# EAGLE library part ATTINY*7-? (library volks73-Atmel)
AVR® ATtiny8/167 Microcontroller 8-bit Atmel Microcontroller with 8K/16K Bytes In-System Programmable Flash and LIN Controller Documentation Datasheet <http://www.atmel.com/Images/Atmel-8265-8-bit-AVR-Microcontroller-tinyAVR-ATtiny87-ATtiny167_datasheet.pdf> PCB Footprint <http://www.atmel.com/images/atmel-8826-seeprom-pcb-mounting-guidelines-surface-mount-packages-applicationnote.pdf> Features High Performance, Low Power AVR® 8-bit Microcontroller Advanced RISC Architecture 123 Powerful Instructions – Most Single Clock Cycle Execution 32 x 8 General Purpose Working Registers Fully Static Operation Non-volatile Program and Data Memories 8K/16K Bytes of In-System Programmable Flash Program Memory Endurance: 10,000 Write/Erase Cycles 512 Bytes of In-System Programmable EEPROM Endurance: 100,000 Write/Erase Cycles 512 Bytes of Internal SRAM Data retention: 20 Years at 85°C / 100 Years at 25°C In-System Programmable via SPI Port Low size LIN/UART Software In-System Programmable Programming Lock for Software Security Peripheral Features LIN 2.1 and 1.3 Controller or 8-bit UART One 8-bit Asynchronous Timer/Counter with Prescaler Output Compare or 8-bit PWM Channel One 16-bit Synchronous Timer/Counter with Prescaler External Event Counter 2 Output Compare Units or PWM Channels each Driving up to 4 Output Pins Master/Slave SPI Serial Interface Universal Serial Interface with Start Condition Detector 10-bit ADC 11 Single Ended Channels 8 Differential ADC Channel Pairs with Programmable Gain (8x or 20x) On-chip Analog Comparator with Selectable Voltage Reference 100 µA ±10% Current Source for LIN Node Identification On-chip Temperature Sensor Programmable Watchdog Timer with Separate On-chip Oscillator Special Microcontroller Features Software Controlled Clock Switching for Power Control, EMC Reduction debugWIRE On-chip Debug System External and Internal Interrupt Sources Low Power Idle, ADC Noise Reduction, and Power-down Modes Power-on Reset and Programmable Brown-out Detection Internal 8MHz Calibrated Oscillator 4-16 MHz and 32 KHz Crystal/Ceramic Resonator Oscillators I/O and Packages 16 Programmable I/O Lines 20-pin SOIC, 32-pad VQFN and 20-pin TSSOP Operating Voltage: 1.8 - 5.5V for ATtiny87/167 Speed Grade: 0 - 4 MHz @ 1.8 - 5.5V 0 - 8 MHz @ 2.7 - 5.5V 0 - 16 MHz @ 4.5 - 5.5V Industrial Temperature Range Description The ATtiny87/167 is a low-power CMOS 8-bit microcontroller based on the AVR enhanced RISC architecture. By executing powerful instructions in a single clock cycle, the ATtiny87/167 achieves throughputs approaching 1 MIPS per MHz allowing the system designer to optimize power consumption versus processing speed. The AVR core combines a rich instruction set with 32 general purpose working registers. All the 32 registers are directly connected to the Arithmetic Logic Unit (ALU), allowing two independent registers to be accessed in one single instruction executed in one clock cycle. The resulting architecture is more code efficient while achieving throughputs up to ten times faster than conventional CISC microcontrollers. The ATtiny87/167 provides the following features: 8K/16K byte of In-System Programmable Flash, 512 bytes EEPROM, 512 bytes SRAM, 16 general purpose I/O lines, 32 general purpose working registers, one 8-bit Timer/Counter with compare modes, one 8-bit high speed Timer/Counter, Universal Serial Interface, a LIN controller, Internal and External Interrupts, a 11-channel, 10-bit ADC, a programmable Watchdog Timer with internal Oscillator, and three software selectable power saving modes. The Idle mode stops the CPU while allowing the SRAM, Timer/Counter, ADC, Analog Comparator, and Interrupt system to continue functioning. The Power-down mode saves the register contents, disabling all chip functions until the next Interrupt or Hardware Reset. The ADC Noise Reduction mode stops the CPU and all I/O modules except ADC, to minimize switching noise during ADC conversions. The device is manufactured using Atmel’s high density non-volatile memory technology. The On-chip ISP Flash allows the Program memory to be re-programmed In-System through an SPI serial interface, by a conventional non-volatile memory programmer or by an On-chip boot code running on the AVR core. The Boot program can use any interface to download the application program in the Flash memory. By combining an 8-bit RISC CPU with In-System Self-Programmable Flash on a monolithic chip, the Atmel ATtiny87/167 is a powerful microcontroller that provides a highly flexible and cost effective solution to many embedded control applications. The ATtiny87/167 AVR is supported with a full suite of program and system development tools including: C Compilers, Macro Assemblers, Program Debugger/Simulators, In-Circuit Emulators, and Evaluation kits.
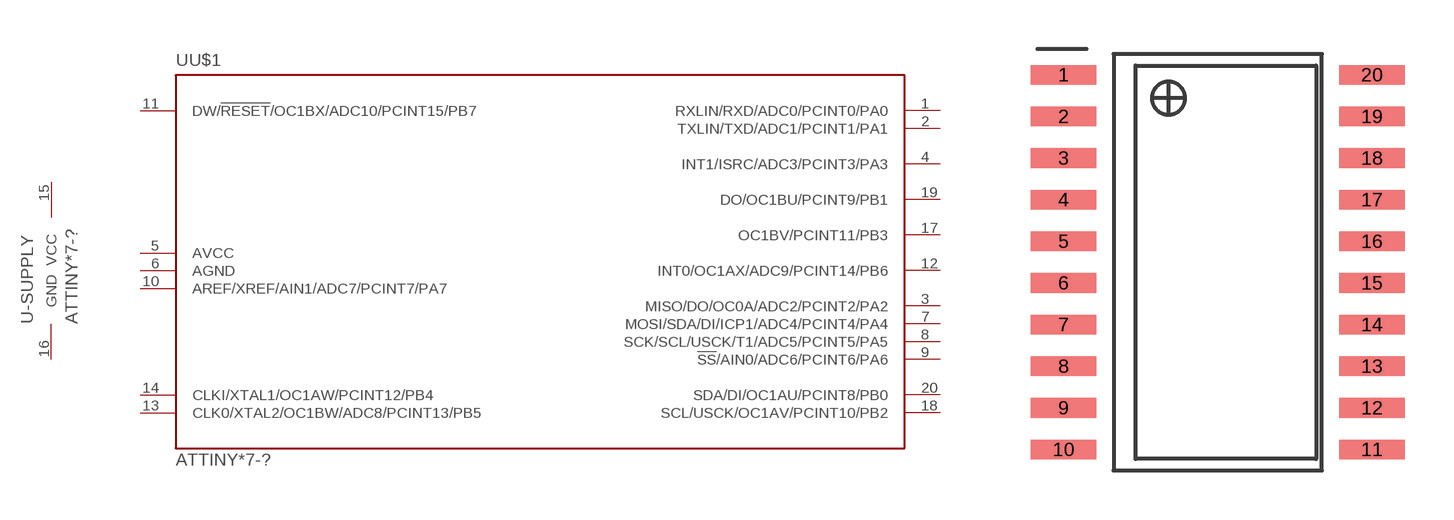
[diagram p1: symbol with the pads of SOIC-20; footprint SOIC-20]

Designator prefix U; gates U$1=ATTINYX7 -SUPPLY=SUPPLY

## ATTINY167-SUR (CATEGORY: Integrated Circuits (ICs); CONNECTIVITY: I²C, LIN, SPI, UART/USART, USI; CORE_PROCESSOR: AVR; CORE_SIZE: 8-Bit; DATA_CONVERTERS: A/D 11x10b; DESCRIPTION: IC MCU 8BIT 16KB FLASH 20SOIC; DOCUMENTATION_LINK: <a href="http://www.atmel.com/Images/Atmel-8265-8-bit-AVR-Microcontroller-tinyAVR-ATtiny87-ATtiny167_datasheet.pdf">Datasheet</a>; DOCUMENTATION_URL: http://www.atmel.com/Images/Atmel-8265-8-bit-AVR-Microcontroller-tinyAVR-ATtiny87-ATtiny167_datasheet.pdf; EEPROM_SIZE: 512 x 8; FAMILY: Embedded - Microcontrollers; MANUFACTURER: Atmel; NUMBER_OF_IO: 16; OPERATING_TEMPERATURE: -40°C ~ 85°C; OSCILLATOR_TYPE: Internal; PACKAGE: 20-SOIC (0.295", 7.50mm Width); PART_NUMBER: ATTINY167-SUR; PERIPHERALS: Brown-out Detect/Reset, POR, PWM, Temp Sensor, WDT; PROGRAM_MEMORY_SIZE: 16KB (8K x 16); PROGRAM_MEMORY_TYPE: FLASH; RAM_SIZE: 512 x 8; SERIES: AVR® ATtiny; SPEED: 20MHz; SUPPLIER_DEVICE_PACKAGE: 20-SOIC; SUPPLIER_ITEM_LINK: <a href="http://www.digikey.com/product-detail/en/ATTINY167-SUR/ATTINY167-SURCT-ND/2774335">Details</a>; SUPPLIER_ITEM_NUMBER: ATTINY167-SURCT-ND; SUPPLIER_ITEM_URL: http://www.digikey.com/product-detail/en/ATTINY167-SUR/ATTINY167-SURCT-ND/2774335; SUPPLIER_LINK: <a href="http://www.digikey.com">Home Page</a>; SUPPLIER_NAME: Digi-Key; SUPPLIER_URL: http://www.digikey.com; VOLTAGE-SUPPLY: 1.8 V ~ 5.5 V)  [SOIC-20]
1  U$1:RXLIN/RXD/ADC0/PCINT0/PA0
2  U$1:TXLIN/TXD/ADC1/PCINT1/PA1
3  U$1:MISO/DO/OC0A/ADC2/PCINT2/PA2
4  U$1:INT1/ISRC/ADC3/PCINT3/PA3
5  U$1:AVCC
6  U$1:AGND
7  U$1:MOSI/SDA/DI/ICP1/ADC4/PCINT4/PA4
8  U$1:SCK/SCL/USCK/T1/ADC5/PCINT5/PA5
9  U$1:!SS!/AIN0/ADC6/PCINT6/PA6
10  U$1:AREF/XREF/AIN1/ADC7/PCINT7/PA7
11  U$1:DW/!RESET!/OC1BX/ADC10/PCINT15/PB7
12  U$1:INT0/OC1AX/ADC9/PCINT14/PB6
13  U$1:CLK0/XTAL2/OC1BW/ADC8/PCINT13/PB5
14  U$1:CLKI/XTAL1/OC1AW/PCINT12/PB4
15  -SUPPLY:VCC  pwr
16  -SUPPLY:GND  pwr
17  U$1:OC1BV/PCINT11/PB3
18  U$1:SCL/USCK/OC1AV/PCINT10/PB2
19  U$1:DO/OC1BU/PCINT9/PB1
20  U$1:SDA/DI/OC1AU/PCINT8/PB0

## Footprint SOIC-20 (pad centres in mm)
20-Pin Small Outline Integrated Circuit (SOIC) Surface Mount Device Alternate Names 20S2 SUR
smd 2 x 0.6: 1 -4.7,5.715; 2 -4.7,4.445; 3 -4.7,3.175; 4 -4.7,1.905; 5 -4.7,0.635; 6 -4.7,-0.635; 7 -4.7,-1.905; 8 -4.7,-3.175; 9 -4.7,-4.445; 10 -4.7,-5.715; 11 4.7,-5.715; 12 4.7,-4.445; 13 4.7,-3.175; 14 4.7,-1.905; 15 4.7,-0.635; 16 4.7,0.635; 17 4.7,1.905; 18 4.7,3.175; 19 4.7,4.445; 20 4.7,5.715